# EAGLE library part FUSB302B (library ON Semiconductor)
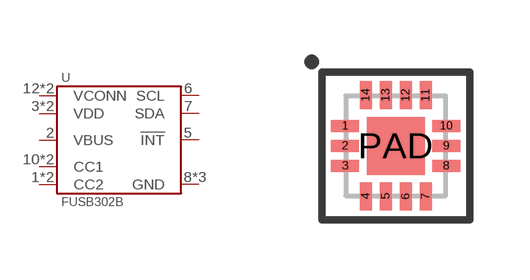
[diagram p2: symbol with the pads of WFQFN-14-2.5X2.5; footprint WFQFN-14-2.5X2.5]

Designator prefix U

## FUSB302BBMPX  [WFQFN-14-2.5X2.5]
1  CC2
2  VBUS
3  VDD
4  VDD
5  !INT
6  SCL
7  SDA
8  GND
9  GND
10  CC1
11  CC1
12  VCONN
13  VCONN
14  CC2
PAD  GND

## Footprint WFQFN-14-2.5X2.5 (pad centres in mm)
smd 0.7 x 0.3: 1 -1.265,0.5; 2 -1.265,0; 3 -1.265,-0.5; 8 1.265,-0.5; 9 1.265,0; 10 1.265,0.5
smd 0.3 x 0.7: 4 -0.75,-1.265; 5 -0.25,-1.265; 6 0.25,-1.265; 7 0.75,-1.265; 11 0.75,1.265; 12 0.25,1.265; 13 -0.25,1.265; 14 -0.75,1.265
smd 1.45 x 1.45: PAD 0,0